# Altium footprint library RES-CERAMICA-15W.PcbLib: 1 footprints
Each footprint in its own frame and in the unit in brackets; x right, y up, seen from the top. Pads: shape width x height; smd on the part's side, far side on the other; paste and mask are expansions set on the pad; w line width, h text height; cw(c..) or ccw(c..) is an arc to the next point about the centre after c.
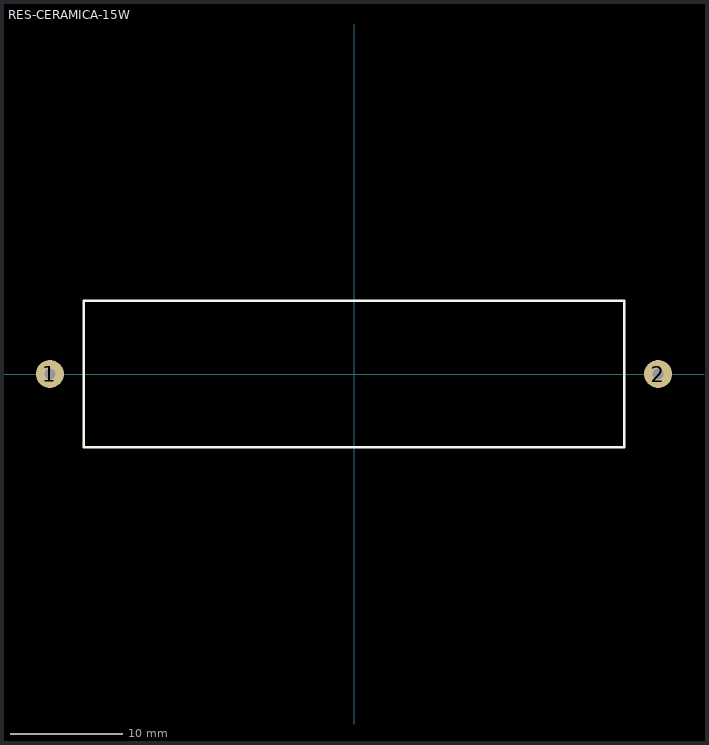
[diagram p0: the footprint, top view; thin cyan lines are the x and y axes]

## RES-CERAMICA-15W [mm] "Resistenci ceramica 15W"
pads (2):
  round 2.5 hole 1: 1(-27,0) 2(27,0)
Top Overlay:
  lines w0.254: -24,-6.5 24,-6.5 24,6.5 -24,6.5 -24,-6.5
3D body "AXIAL-POWER.stp": height 12.5, standoff -6, extent -27.495,-6.223 27.305,6.277